# EAGLE library part GD25Q*E (library memory-gigadevice)
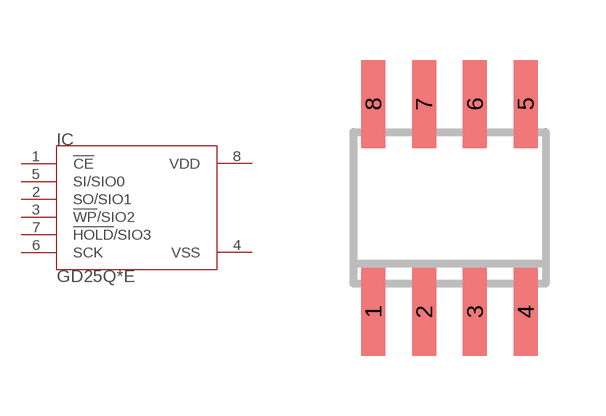
[diagram p0: symbol with the pads of SO8; footprint SO8]

Designator prefix IC

## GD25Q05ET (DENSITY: 512kb), GD25Q10ET (DENSITY: 1Mb), GD25Q16ET (DENSITY: 16Mb), GD25Q20ET (DENSITY: 2Mb), GD25Q32ET (DENSITY: 32Mb), GD25Q40ET (DENSITY: 4Mb), GD25Q64ET (DENSITY: 64Mb), GD25Q80ET (DENSITY: 8Mb)  [SO8]
1  !CE!
2  SO/SIO1
3  !WP!/SIO2
4  VSS
5  SI/SIO0
6  SCK
7  !HOLD!/SIO3
8  VDD

## Footprint SO8 (pad centres in mm)
SMALL OUTLINE INTEGRATED CIRCUIT
smd 0.6 x 2.2: 1 -1.905,-2.6; 2 -0.635,-2.6; 3 0.635,-2.6; 4 1.905,-2.6; 5 1.905,2.6; 6 0.635,2.6; 7 -0.635,2.6; 8 -1.905,2.6